# Altium footprint library 950510-6102-AR.PcbLib: 1 footprints
Each footprint in its own frame and in the unit in brackets; x right, y up, seen from the top. Pads: shape width x height; smd on the part's side, far side on the other; paste and mask are expansions set on the pad; w line width, h text height; cw(c..) or ccw(c..) is an arc to the next point about the centre after c.
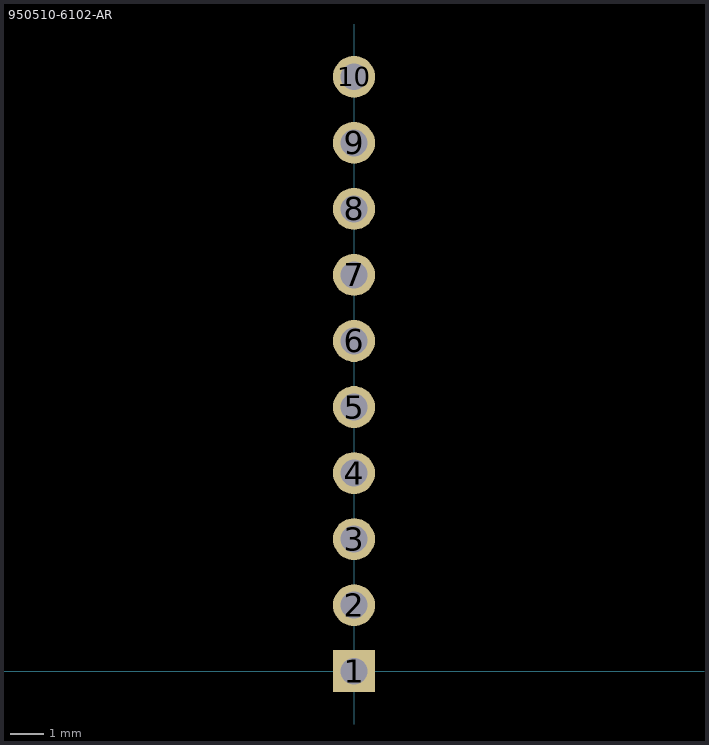
[diagram p0: the footprint, top view; thin cyan lines are the x and y axes]

## 950510-6102-AR [mil]
pads (10):
  rect 50x50 hole 32: 1(0,0)
  round 50 hole 32: 2(0,78.74) 3(0,157.48) 4(0,236.22) 5(0,314.96) 6(0,393.7) 7(0,472.44) 8(0,551.18) 9(0,629.92) 10(0,708.66)
3D body: height 169.48, standoff -98.24, extent -47.49,-48.54 47,758.54